# EAGLE library part SLG46855A (library GREENPAK)
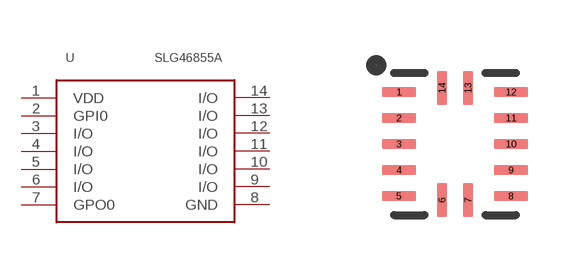
[diagram p59: symbol with the pads of FCQFN-14-3.0X3.0-A; footprint FCQFN-14-3.0X3.0-A]

Designator prefix -

## SLG46855A  [FCQFN-14-3.0X3.0-A]
1  VDD
2  GPI0
3  I/O
4  I/O
5  I/O
6  I/O
7  GPO0
8  GND
9  I/O
10  I/O
11  I/O
12  I/O
13  I/O
14  I/O

## Footprint FCQFN-14-3.0X3.0-A (pad centres in mm)
smd 0.85 x 0.254: 1 -1.401,1.3; 2 -1.401,0.65; 3 -1.401,0; 4 -1.401,-0.65; 5 -1.401,-1.3; 8 1.399,-1.3; 9 1.399,-0.65; 10 1.399,0; 11 1.399,0.65; 12 1.399,1.3
smd 0.254 x 0.85: 6 -0.326,-1.4; 7 0.324,-1.4; 13 0.324,1.4; 14 -0.326,1.4